# Altium integrated library 4754.IntLib: 1 symbol
Pins are listed as number, name and electrical type; pins without a type are passive.

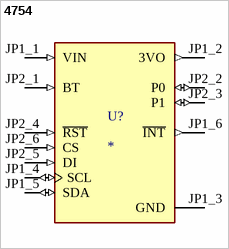
[diagram p0: symbol 4754]

## 4754
designator U?
Adafruit 9-DOF Orientation IMU Fusion Breakout - BNO085 (BNO080) - STEMMA QT / Qwiic; MP: 4754; SnapEDA_Link: https://www.snapeda.com/parts/4754/Adafruit+Industries/view-part/?ref=snap; Price: None; Purchase-URL: https://pricing.snapeda.com/search/part/4754/?ref=eda; MF: Adafruit; Package: None; Availability: In Stock; Check_prices: https://www.snapeda.com/parts/4754/Adafruit+Industries/view-part/?ref=eda; Value: *
footprint MODULE_4754
pins: JP1_1 VIN (in), JP1_2 3VO (out), JP1_3 GND (power), JP1_4 SCL (io), JP1_5 SDA (io), JP1_6 ~{INT} (out), JP2_1 BT (in), JP2_2 P0 (io), JP2_3 P1 (io), JP2_4 ~{RST} (in), JP2_5 DI (in), JP2_6 CS (in)